# EAGLE library part MAX6651 (library di_ic)
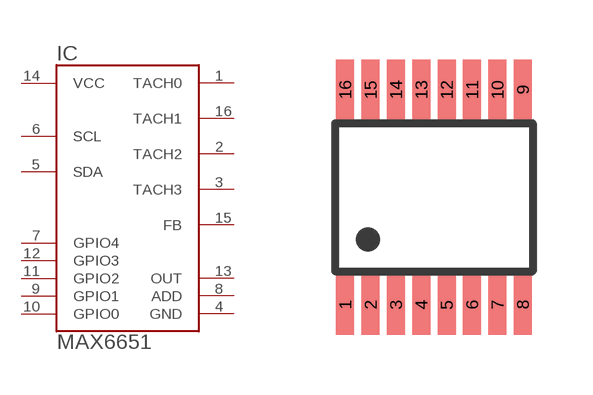
[diagram p30: symbol with the pads of QSOP16; footprint QSOP16]

Designator prefix IC

## MAX6651  [QSOP16]
1  TACH0
2  TACH2
3  TACH3
4  GND
5  SDA
6  SCL
7  GPIO4
8  ADD
9  GPIO1
10  GPIO0
11  GPIO2
12  GPIO3
13  OUT
14  VCC
15  FB
16  TACH1

## Footprint QSOP16 (pad centres in mm)
smd 0.45 x 1.5: 1 -2.223,-2.69; 2 -1.587,-2.69; 3 -0.953,-2.69; 4 -0.318,-2.69; 5 0.318,-2.69; 6 0.953,-2.69; 7 1.587,-2.69; 8 2.223,-2.69; 9 2.223,2.69; 10 1.587,2.69; 11 0.953,2.69; 12 0.318,2.69; 13 -0.318,2.69; 14 -0.953,2.69; 15 -1.587,2.69; 16 -2.223,2.69